# Altium schematic symbol library RTD34012F.SchLib: 1 symbol
Pins are listed as number, name and electrical type; pins without a type are passive.

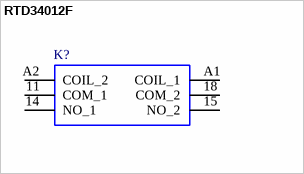
[diagram p0: symbol RTD34012F]

## RTD34012F
designator K?
TE Connectivity PCB Mount Non-Latching Relay - SPNO, 12V Coil, 16A Switching Current; Geometry.Height: 15.7mm; Manufacturer_Name: TE Connectivity; Manufacturer_Part_Number: RTD34012F; Mouser Part Number: 655-RTD34012F; Mouser Price/Stock: https://www.mouser.co.uk/ProductDetail/TE-Connectivity-PB/RTD34012F?qs=xBghIHTbXkif3RDRm%2FBtiA%3D%3D; Arrow Part Number: RTD34012F; Arrow Price/Stock: https://www.arrow.com/en/products/rtd34012f/te-connectivity; Mouser Testing Part Number: *; Mouser Testing Price/Stock: *; Datasheet Link: https://www.te.com/commerce/DocumentDelivery/DDEController?Action=srchrtrv&DocNm=RT1pb&DocType=DS&DocLang=English
footprint RTD34012F
pins: 11 COM_1, 14 NO_1, 15 NO_2, 18 COM_2, A1 COIL_1, A2 COIL_2